# Altium schematic symbol library CIFRACURS.SCHLIB: 12 symbols
Pins are listed as number, name and electrical type; pins without a type are passive.

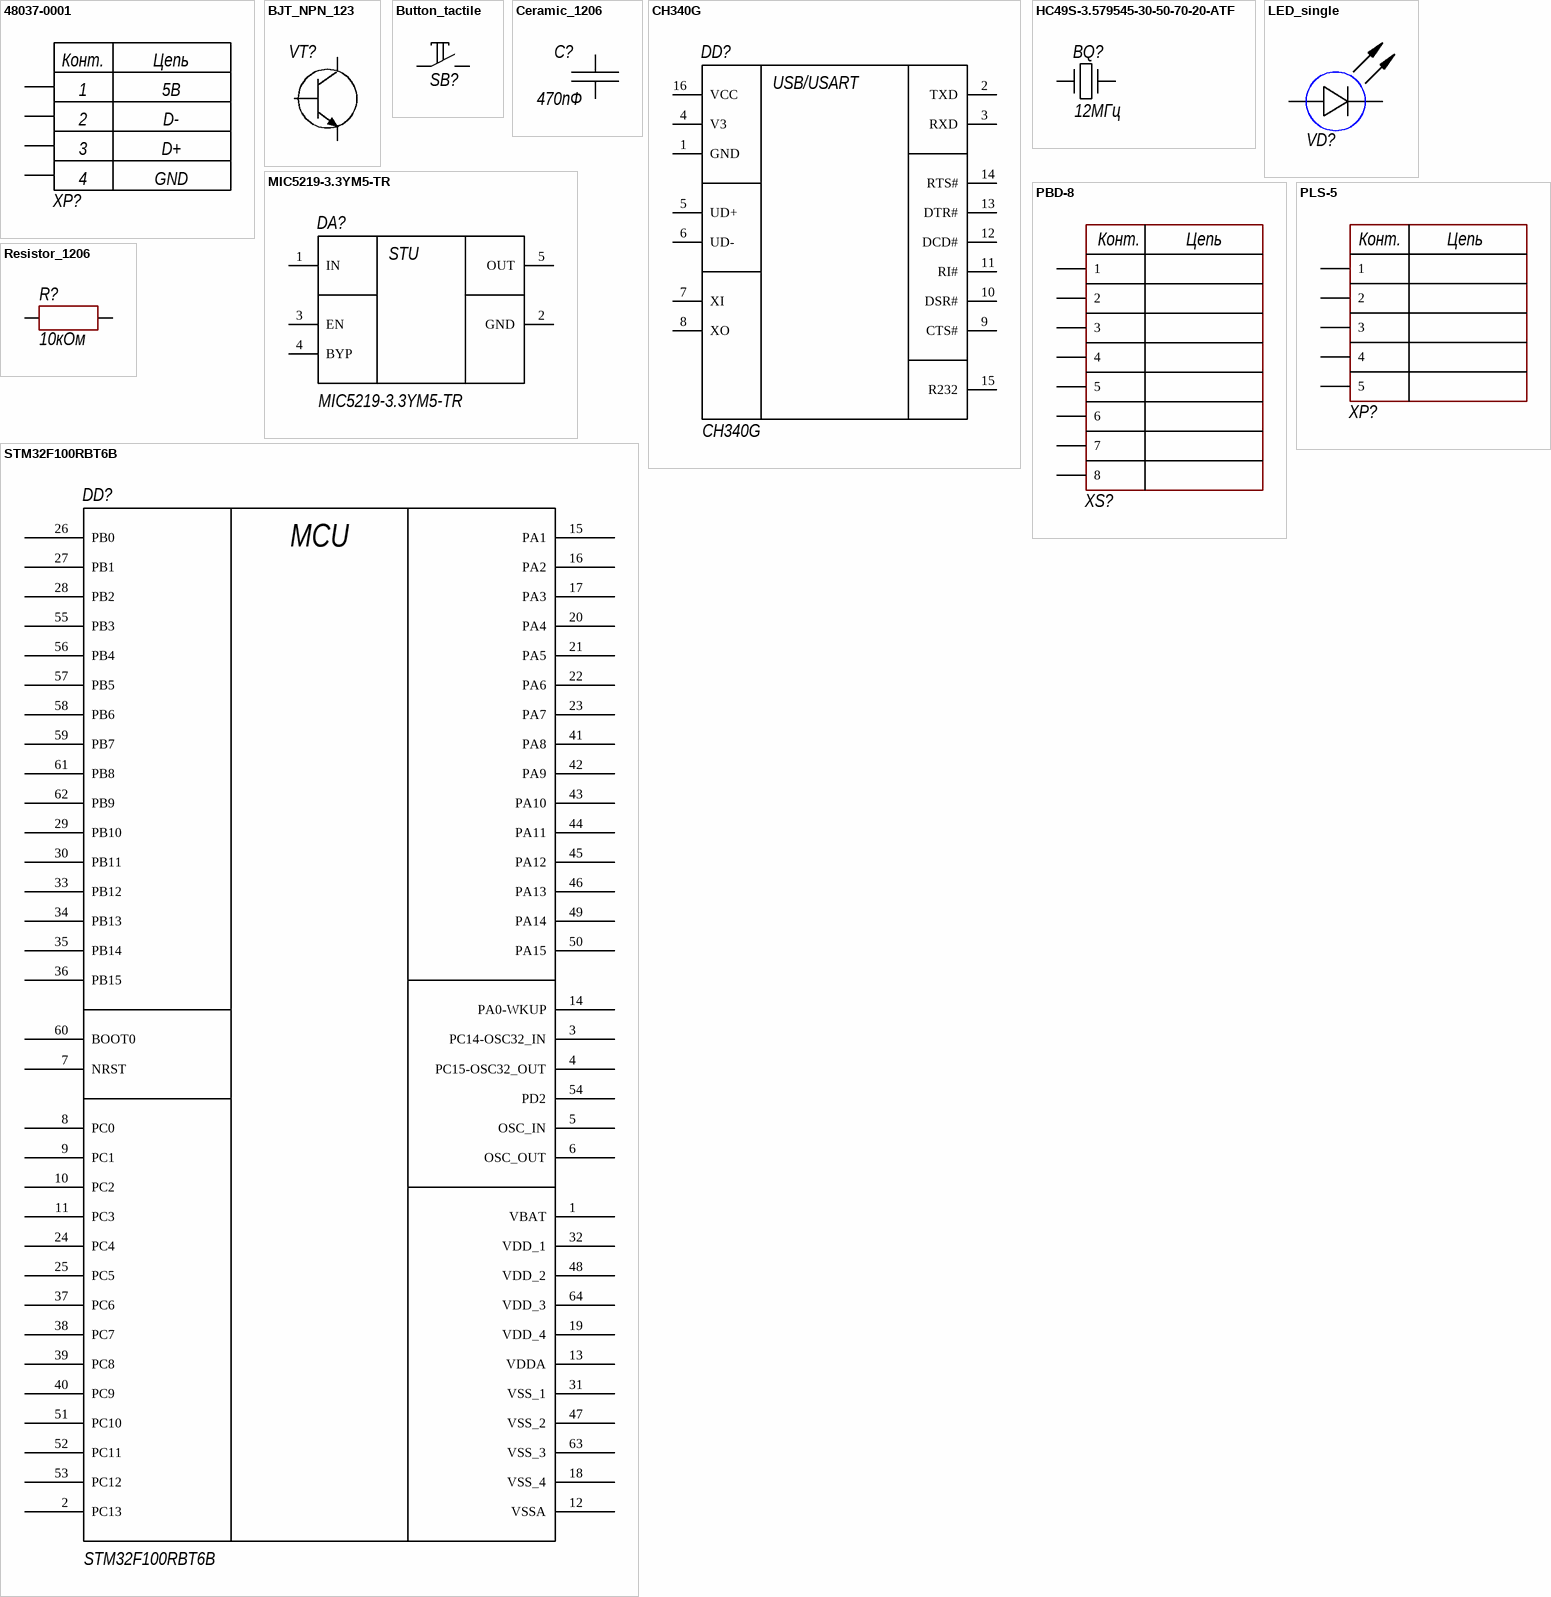
[diagram p0: symbols 48037-0001 to STM32F100RBT6B]

## 48037-0001
designator XP?  (value not drawn)
USB-A _USB TYPE-A_ USB 2.0 Plug Connector 4 Position Through Hole, Right Angle; MF: Molex; Package: None; Price: None; SnapEDA_Link: https://www.snapeda.com/parts/48037-0001/Molex/view-part/49135/?ref=snap; Availability: Unavailable; Value: *; MP: 48037-0001
footprint MOLEX_48037-0001
pins: 1 VCC, 2 D-, 3 D+, 4 GND
text: Конт.; Цепь; 5В

## BJT_NPN_123
designator VT?
Manufacturer: ON Semiconductor; ValueManufacturerPartNumber: NPN transistor, 45V, 100mA, 100MHz, 300mW, 0.6V, 420, SOT-23, -55...+125°C; PartNumber: BC847CLT1G; TypeTransistor: NPN transistor; VoltageCE: 45V; CurrentCE: 100mA; VoltageSaturation: 0.6V; Frequency: 100MHz; CurrentGain: 420; MaxPower: 300mW; Package: SOT-23; HelpURL: https://www.digikey.com/product-detail/en/on-semiconductor/BC847CLT1G/BC847CLT1GOSCT-ND/917836; Temperature: -55...+125°C
footprint SOT23
footprint D2PAK
footprint DPAK
pins: 1 B, 2 C, 3 E

## Button_tactile
designator SB?
Manufacturer: TE Connectivity; ValueManufacturerPartNumber: Tactile button, 6x6mm; PartNumber: FSM2JSMAATR; TypeButton: Tactile button; HelpURL: https://www.digikey.com/product-detail/en/te-connectivity-alcoswitch-switches/FSM2JSMAATR/450-1792-1-ND/3503931; Package: 6x6mm
footprint BUT: 6x6 (Leaded Tactile Button 6x6)
footprint BUT: 6x6 SMD (Leaded Tactile Button 6x6)
footprint BUT: SKQGADE010
pins: 1, 2

## Ceramic_1206
designator C?  value 470пФ
Manufacturer: Yageo; PartNumber: CC1206KRX7R9BB104; ValueManufacturerPartNumber: Ceramic capacitor, 470пФ, X7R, ±10%, 50V, 1206, -55...+125°C; TypeCapacitor: Ceramic capacitor; Tolerance: ±10%; TypeDielectric: X7R; Voltage: 50V; Package: 1206; HelpURL: https://www.digikey.com/product-detail/en/yageo/CC1206KRX7R9BB104/311-1179-1-ND/303089; Temperature: -55...+125°C
footprint CAP: 1206
pins: 1 (power), 2 (power)

## CH340G
designator DD?
Optoisolator Transistor Output 3750Vrms 4 Channel 16-SOP; MF: Vishay Semiconductor; MP: TCMT4600T0; Price: None; Value: *; Availability: Warning; SnapEDA_Link: https://www.snapeda.com/parts/TCMT4600T0/Vishay%20Semiconductor%20Opto%20Division/view-part/446869/?ref=snap; Package: SOP-16 Vishay; Purchase-URL: https://pricing.snapeda.com/search/part/TCMT4600T0/?ref=eda
footprint SOIC127P700X210-16N
pins: 1 GND, 2 TXD, 3 RXD, 4 V3, 5 UD+, 6 UD-, 7 XI, 8 XO, 9 CTS#, 10 DSR#, 11 RI#, 12 DCD#, 13 DTR#, 14 RTS#, 15 R232, 16 VCC
text: USB/USART

## HC49S-3.579545-30-50-70-20-ATF
designator BQ?, comment 12МГц
No Description Available; Manufacturer_Part_Number: HC49S-3.579545-30-50-70-20-ATF; Vendor: Multicomp; Built_By: EMA_Cory; SourceLibrary: Multicomp_2020_05_26; Datasheet: http://www.farnell.com/datasheets/2877048.pdf?_ga=2.121813835.1157864053.1580138817-1514888881.1564406863&_gac=1.120882810.1579736795.CjwKCAiAgqDxBRBTEiwA59eENzGctPLsmK0lEgc5JdFCaIFHaXFzPPrx8ISHe61xJTDsw4XzCmNmYxoC7akQAvD_BwE; Copyright: Copyright (C) 2018 Accelerated Designs. All rights reserved; RefDes: RefDes; Type: DEV
footprint XTAL_HC49S_MTC
pins: 1, 2

## LED_single
designator VD?
ValueManufacturerPartNumber: LED, *, *, *, -55...+150°C; TypeDiode: LED; Color: GREEN; Manufacturer: *; Package: *; HelpURL: *; Temperature: -55...+150°C; Current: *; VoltageDrop: *; PartNumber: *
footprint LED: 0402B
footprint LED: 0402G
footprint LED: 0402O
footprint LED: 0402R
footprint LED: 0402Y
footprint LED: 0603B
footprint LED: 0603G
footprint LED: 0603R
footprint LED: 0603Y
footprint LED: 0805B
footprint LED: 0805G
footprint LED: 0805R
footprint LED: 0805Y
footprint LED: 1206B
footprint LED: 1206G
footprint LED: 1206R
footprint LED: 1206W
footprint LED: 1206Y
pins: 1 A, 2 C

## MIC5219-3.3YM5-TR
designator DA?
No Description Available; Vendor: Microchip; Built_By: EMA_Jessica; SourceLibrary: Microchip_2019-08-23_3; Manufacturer_Part_Number: MIC5219-3.3YM5-TR; Copyright: Copyright (C) 2018 Accelerated Designs. All rights reserved; RefDes: RefDes; Type: DEV
footprint SOT-23-5_M5_MCH
pins: 1 IN, 2 GND, 3 EN, 4 BYP, 5 OUT
text: STU

## PBD-8
designator XS?
Manufacturer: Connfly; ValueManufacturerPartNumber: Connector, 8pin, 2.54mm, 500VAC, 3A; PartNumber: PBD-8; TypeConnector: Connector; VoltageMax: 500VAC; Pitch: 2.54mm; CurrentMax: 3A; Multichannel: 8pin; CommentText: "Разъем"; HelpURL: https://www.chipdip.ru/product/pbd-8
footprint CON: PBD-8 (PBD-8)
footprint CON: PBD-8 - ESP-01 (PBD-8)
pins: 1, 2, 3 (power), 4 (power), 5 (power), 6 (power), 7 (power), 8 (power)
text: Конт.; Цепь

## PLS-5
designator XP?
Manufacturer: Connfly; ValueManufacturerPartNumber: Connector, 5pin, 2.54mm, 500VAC, 3A; PartNumber: PLS-5; TypeConnector: Connector; VoltageMax: 500VAC; Pitch: 2.54mm; CurrentMax: 3A; Multichannel: 5pin; CommentText: "Разъем"; HelpURL: https://www.chipdip.ru/product/pls-5
footprint CON: PLS-5
pins: 1, 2, 3 (power), 4 (power), 5 (power)
text: Конт.; Цепь

## Resistor_1206
designator R?  value 10кОм
Manufacturer: Yageo; PartNumber: RC1206JR-07100RL; ValueManufacturerPartNumber: Resistor film, 10кОм, ±5%, 1206, 0.25W, -55...+125°C; TypeResistor: Resistor film; Power: 0.25W; Tolerance: ±5%; Package: 1206; HelpURL: https://www.digikey.com/product-detail/en/yageo/RC1206JR-07100RL/311-100ERCT-ND/732153; Temperature: -55...+125°C
footprint RES: 1206
pins: 1, 2

## STM32F100RBT6B
designator DD?
No Description Available; Vendor: STMicroelectronics; SourceLibrary: STMicroelectronics_2020-10-07; Manufacturer_Part_Number: STM32F100RBT6B; Copyright: Copyright (C) 2018 Accelerated Designs. All rights reserved; RefDes: RefDes; Type: DEV
footprint LQFP64-10x10mm
pins: 1 VBAT (power), 2 PC13, 3 PC14-OSC32_IN, 4 PC15-OSC32_OUT, 5 OSC_IN, 6 OSC_OUT, 7 NRST, 8 PC0, 9 PC1, 10 PC2, 11 PC3, 12 VSSA (power), 13 VDDA (power), 14 PA0-WKUP, 15 PA1, 16 PA2, 17 PA3, 18 VSS_4 (power), 19 VDD_4 (power), 20 PA4, 21 PA5, 22 PA6, 23 PA7, 24 PC4, 25 PC5, 26 PB0, 27 PB1, 28 PB2, 29 PB10, 30 PB11, 31 VSS_1 (power), 32 VDD_1 (power), 33 PB12, 34 PB13, 35 PB14, 36 PB15, 37 PC6, 38 PC7, 39 PC8, 40 PC9, 41 PA8, 42 PA9, 43 PA10, 44 PA11, 45 PA12, 46 PA13, 47 VSS_2 (power), 48 VDD_2 (power), 49 PA14, 50 PA15, 51 PC10, 52 PC11, 53 PC12, 54 PD2, 55 PB3, 56 PB4, 57 PB5, 58 PB6, 59 PB7, 60 BOOT0, 61 PB8, 62 PB9, 63 VSS_3 (power), 64 VDD_3 (power)
text: MCU